# Altium schematic symbol library headers.SchLib: 1 symbol
Pins are listed as number, name and electrical type; pins without a type are passive.

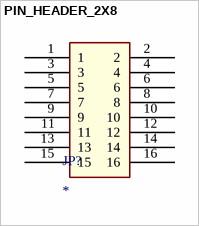
[diagram p0: symbol PIN_HEADER_2X8]

## PIN_HEADER_2X8
designator JP?
footprint PIN_HEADER_2X8_2.54MM
pins: 1, 2, 3, 4, 5, 6, 7, 8, 9, 10, 11, 12, 13, 14, 15, 16